# Altium schematic symbol library SI5341B-B05071-GM.SchLib: 2 symbols
Pins are listed as number, name and electrical type; pins without a type are passive.

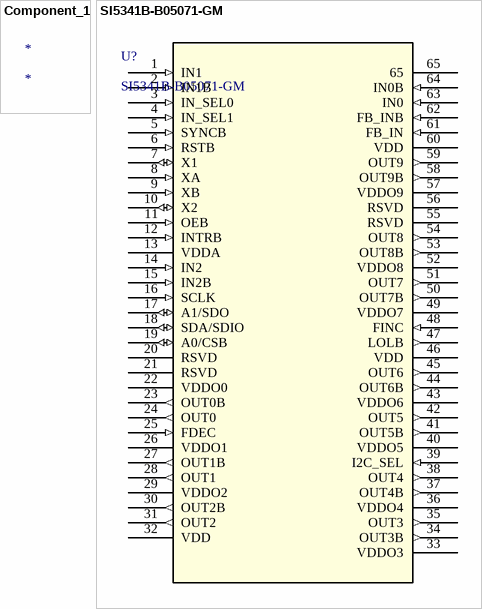
[diagram p0: symbols Component_1 to SI5341B-B05071-GM]

## Component_1
designator *

## SI5341B-B05071-GM
designator U?
No Description Available; Mfr_Name: Skyworks; Type: DEV; Copyright: Copyright (C) 2023 Ultra Librarian. All rights reserved.; Manufacturer_Part_Number: SI5341B-B05071-GM; RefDes: RefDes
footprint QFN64_SI5341_SIL_SKY
pins: 1 IN1 (in), 2 IN1B (in), 3 IN_SEL0 (in), 4 IN_SEL1 (in), 5 SYNCB (in), 6 RSTB (in), 7 X1 (io), 8 XA (in), 9 XB (in), 10 X2 (io), 11 OEB (in), 12 INTRB (in), 13 VDDA (power), 14 IN2 (in), 15 IN2B (in), 16 SCLK (in), 17 A1/SDO (io), 18 SDA/SDIO (io), 19 A0/CSB (io), 20 RSVD, 21 RSVD, 22 VDDO0 (power), 23 OUT0B (out), 24 OUT0 (out), 25 FDEC (in), 26 VDDO1 (power), 27 OUT1B (out), 28 OUT1 (out), 29 VDDO2 (power), 30 OUT2B (out), 31 OUT2 (out), 32 VDD (power), 33 VDDO3 (power), 34 OUT3B (out), 35 OUT3 (out), 36 VDDO4 (power), 37 OUT4B (out), 38 OUT4 (out), 39 I2C_SEL (in), 40 VDDO5 (power), 41 OUT5B (out), 42 OUT5 (out), 43 VDDO6 (power), 44 OUT6B (out), 45 OUT6 (out), 46 VDD (power), 47 LOLB (out), 48 FINC (in), 49 VDDO7 (power), 50 OUT7B (out), 51 OUT7 (out), 52 VDDO8 (power), 53 OUT8B (out), 54 OUT8 (out), 55 RSVD, 56 RSVD, 57 VDDO9 (power), 58 OUT9B (out), 59 OUT9 (out), 60 VDD (power), 61 FB_IN (in), 62 FB_INB (in), 63 IN0 (in), 64 IN0B (in), 65